# Altium schematic symbol library JLCPCB_MotorDrivers_SMD.SchLib: 2 symbols
Pins are listed as number, name and electrical type; pins without a type are passive.

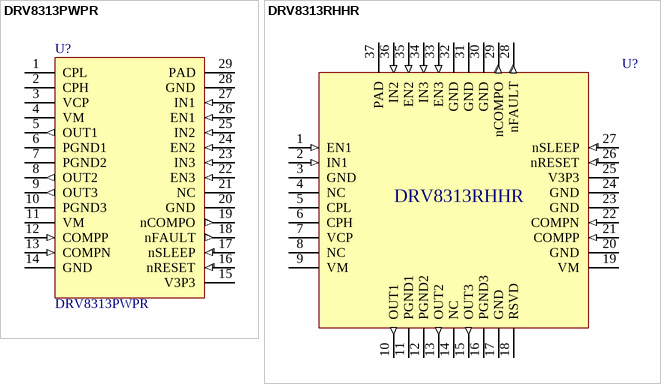
[diagram p0: symbols DRV8313PWPR to DRV8313RHHR]

## DRV8313PWPR
designator U?, comment MFR_Part#: DRV8313PWPR  (hidden comment: 60V 2.5-A Triple 1/2-H BridgeDriver)
Motor Drivers: 60V 2.5-A Triple 1/2-H BridgeDriver, HTSSOP-28 RoHS With Power PAD Package; MFR: Texas Instruments; Power supply voltage: 8-60V; ComponentLink1Description: Datasheet; ComponentLink1URL: https://www.ti.com/lit/ds/symlink/drv8313.pdf?HQS=dis-mous-null-mousermode-dsf-pf-null-wwe&ts=1617361589558&ref_url=https%253A%252F%252Fpl.mouser.com%252F; LCSC_Part#: C92482
footprint TSSOP-65P640X120_HS-29L (TSOP, 28-Leads, Body 9,70x4,40mm, Pitch 0,65mm, Thermal Pad 5,18x3,10mm, IPC High Density)
pins: 1 CPL, 2 CPH, 3 VCP, 4 VM (power), 5 OUT1 (out), 6 PGND1 (power), 7 PGND2 (power), 8 OUT2 (out), 9 OUT3 (out), 10 PGND3 (power), 11 VM (power), 12 COMPP (in), 13 COMPN (in), 14 GND (power), 15 V3P3 (power), 16 nRESET (in), 17 nSLEEP (in), 18 nFAULT (out), 19 nCOMPO (out), 20 GND (power), 21 NC "No internal connected", 22 EN3 (in), 23 IN3 (in), 24 EN2 (in), 25 IN2 (in), 26 EN1 (in), 27 IN1 (in), 28 GND (power), 29 PAD (power)

## DRV8313RHHR
designator U?, comment MFR_Part#: DRV8313RHHR  (hidden comment: 60V 2.5-A Triple 1/2-H BridgeDriver)
Motor Drivers: 60V 2.5-A Triple 1/2-H BridgeDriver, HTSSOP-28 RoHS With Power PAD Package; MFR: Texas Instruments; Power supply voltage: 8-60V; ComponentLink1Description: Datasheet; ComponentLink1URL: https://www.ti.com/lit/ds/symlink/drv8313.pdf?HQS=dis-mous-null-mousermode-dsf-pf-null-wwe&ts=1617361589558&ref_url=https%253A%252F%252Fpl.mouser.com%252F; LCSC_Part#: C165154
footprint VQFN-50P600X600X100_HS-37N (QFN, 36-Leads, Body 6,00x6,00mm, Pitch 0,50mm, Thermal Pad 4,40x4,40mm, IPC Medium Density)
pins: 1 EN1 (in), 2 IN1 (in), 3 GND (power), 4 NC "No internal connected", 5 CPL, 6 CPH, 7 VCP, 8 NC "No internal connected", 9 VM (power), 10 OUT1 (out), 11 PGND1 (power), 12 PGND2 (power), 13 OUT2 (out), 14 NC "No internal connected", 15 OUT3 (out), 16 PGND3 (power), 17 GND (power), 18 RSVD "Do Not Connect", 19 VM (power), 20 GND (power), 21 COMPP (in), 22 COMPN (in), 23 GND (power), 24 GND (power), 25 V3P3 (power), 26 nRESET (in), 27 nSLEEP (in), 28 nFAULT (out), 29 nCOMPO (out), 30 GND (power), 31 GND (power), 32 GND (power), 33 EN3 (in), 34 IN3 (in), 35 EN2 (in), 36 IN2 (in), 37 PAD (power)